# Altium integrated library GBU406.IntLib: 1 symbol
Pins are listed as number, name and electrical type; pins without a type are passive.

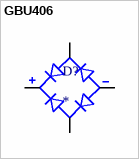
[diagram p0: symbol GBU406]

## GBU406
designator D?
4A, 800V, Standard Bridge Rectifier; MP: GBU406; MF: Taiwan Semiconductor; SnapEDA_Link: https://www.snapeda.com/parts/GBU406/Taiwan+Semiconductor/view-part/?ref=snap; Package: GBU Taiwan Semiconductor; Purchase-URL: https://pricing.snapeda.com/search/part/GBU406/?ref=eda; Check_prices: https://www.snapeda.com/parts/GBU406/Taiwan+Semiconductor/view-part/?ref=eda; Price: None; Value: *; Availability: In Stock
footprint SIP343W114P508L2205H2134Q4
pins: AC1, AC2, NEG, POS